# EAGLE library part AD9280 (library ad9280)
8-Bit 32 MSPS Sampling A/D Converter
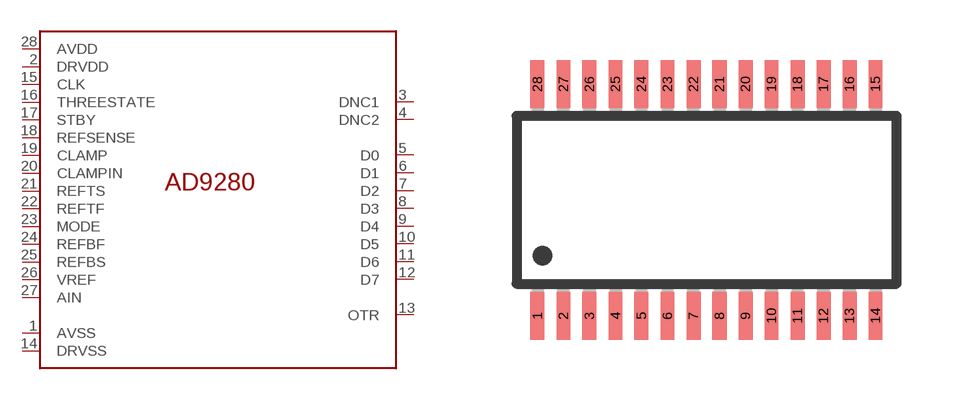
[diagram p0: symbol with the pads of TSSOP28; footprint TSSOP28]

Designator prefix -

## AD9280BR  [TSSOP28]
1  AVSS  out
2  DRVDD  pwr
3  DNC1  out
4  DNC2  out
5  D0  pwr
6  D1  pwr
7  D2  in
8  D3  out
9  D4  nc
10  D5  nc
11  D6  out
12  D7  out
13  OTR  nc
14  DRVSS  out
15  CLK  in
16  THREESTATE  pwr
17  STBY
18  REFSENSE  out
19  CLAMP
20  CLAMPIN  out
21  REFTS
22  REFTF  out
23  MODE  nc
24  REFBF  pwr
25  REFBS  pwr
26  VREF  out
27  AIN
28  AVDD  out

## Footprint TSSOP28 (pad centres in mm)
smd 0.35 x 1.2: 1 -5.495,-2.9; 2 -4.845,-2.9; 3 -4.195,-2.9; 4 -3.545,-2.9; 5 -2.895,-2.9; 6 -2.245,-2.9; 7 -1.595,-2.9; 8 -0.945,-2.9; 9 -0.295,-2.9; 10 0.355,-2.9; 11 1.005,-2.9; 12 1.655,-2.9; 13 2.305,-2.9; 14 2.955,-2.9; 15 2.955,2.9; 16 2.305,2.9; 17 1.655,2.9; 18 1.005,2.9; 19 0.355,2.9; 20 -0.295,2.9; 21 -0.945,2.9; 22 -1.595,2.9; 23 -2.245,2.9; 24 -2.895,2.9; 25 -3.545,2.9; 26 -4.195,2.9; 27 -4.845,2.9; 28 -5.495,2.9